# EAGLE library part PIC16F628A (library mcu)
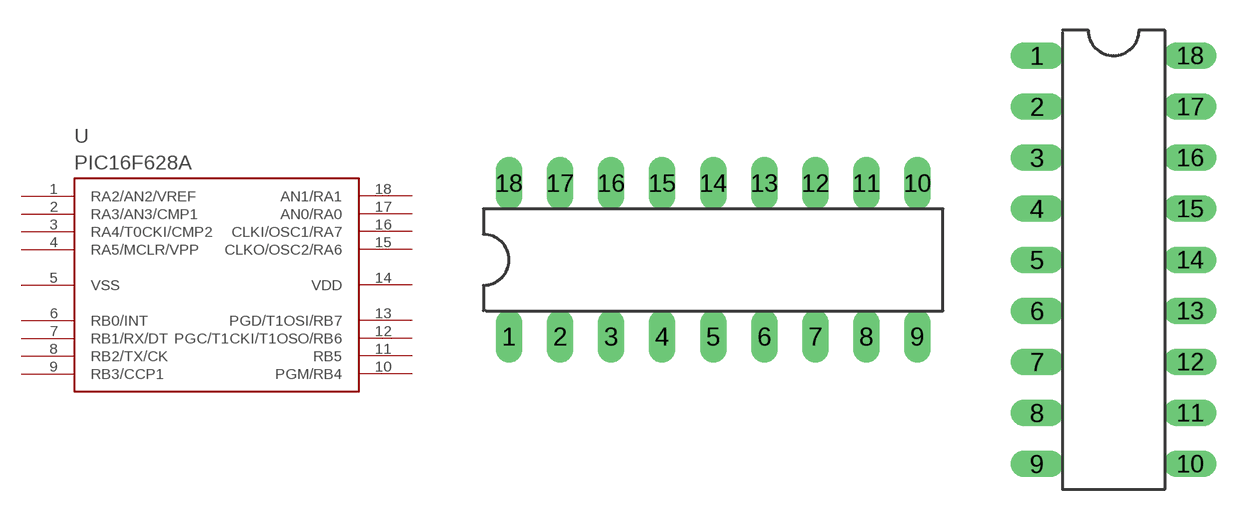
[diagram p8: symbol with the pads of DIL18-3; footprints DIL18-3, DIL18-3/V]

Designator prefix -

## PIC16F628A  [DIL18-3]
1  RA2/AN2/VREF  pas
2  RA3/AN3/CMP1  pas
3  RA4/T0CKI/CMP2  pas
4  RA5/MCLR/VPP  pas
5  VSS  pas
6  RB0/INT  pas
7  RB1/RX/DT  pas
8  RB2/TX/CK  pas
9  RB3/CCP1  pas
10  PGM/RB4  pas
11  RB5  pas
12  PGC/T1CKI/T1OSO/RB6  pas
13  PGD/T1OSI/RB7  pas
14  VDD  pas
15  CLKO/OSC2/RA6  pas
16  CLKI/OSC1/RA7  pas
17  AN0/RA0  pas
18  AN1/RA1  pas

## PIC16F628A/V  [DIL18-3/V]
Pads as for DIL18-3

## Footprint DIL18-3 (pad centres in mm)
drill 0.813 long: 1 -10.16,-3.81; 2 -7.62,-3.81; 3 -5.08,-3.81; 4 -2.54,-3.81; 5 0,-3.81; 6 2.54,-3.81; 7 5.08,-3.81; 8 7.62,-3.81; 9 10.16,-3.81; 10 10.16,3.81; 11 7.62,3.81; 12 5.08,3.81; 13 2.54,3.81; 14 0,3.81; 15 -2.54,3.81; 16 -5.08,3.81; 17 -7.62,3.81; 18 -10.16,3.81

## Footprint DIL18-3/V (pad centres in mm)
drill 0.813 long: 1 -3.81,10.16; 2 -3.81,7.62; 3 -3.81,5.08; 4 -3.81,2.54; 5 -3.81,0; 6 -3.81,-2.54; 7 -3.81,-5.08; 8 -3.81,-7.62; 9 -3.81,-10.16; 10 3.81,-10.16; 11 3.81,-7.62; 12 3.81,-5.08; 13 3.81,-2.54; 14 3.81,0; 15 3.81,2.54; 16 3.81,5.08; 17 3.81,7.62; 18 3.81,10.16